# Altium footprint library MxPcbLib.PcbLib: 9 footprints
Each footprint in its own frame and in the unit in brackets; x right, y up, seen from the top. Pads: shape width x height; smd on the part's side, far side on the other; paste and mask are expansions set on the pad; w line width, h text height; cw(c..) or ccw(c..) is an arc to the next point about the centre after c.
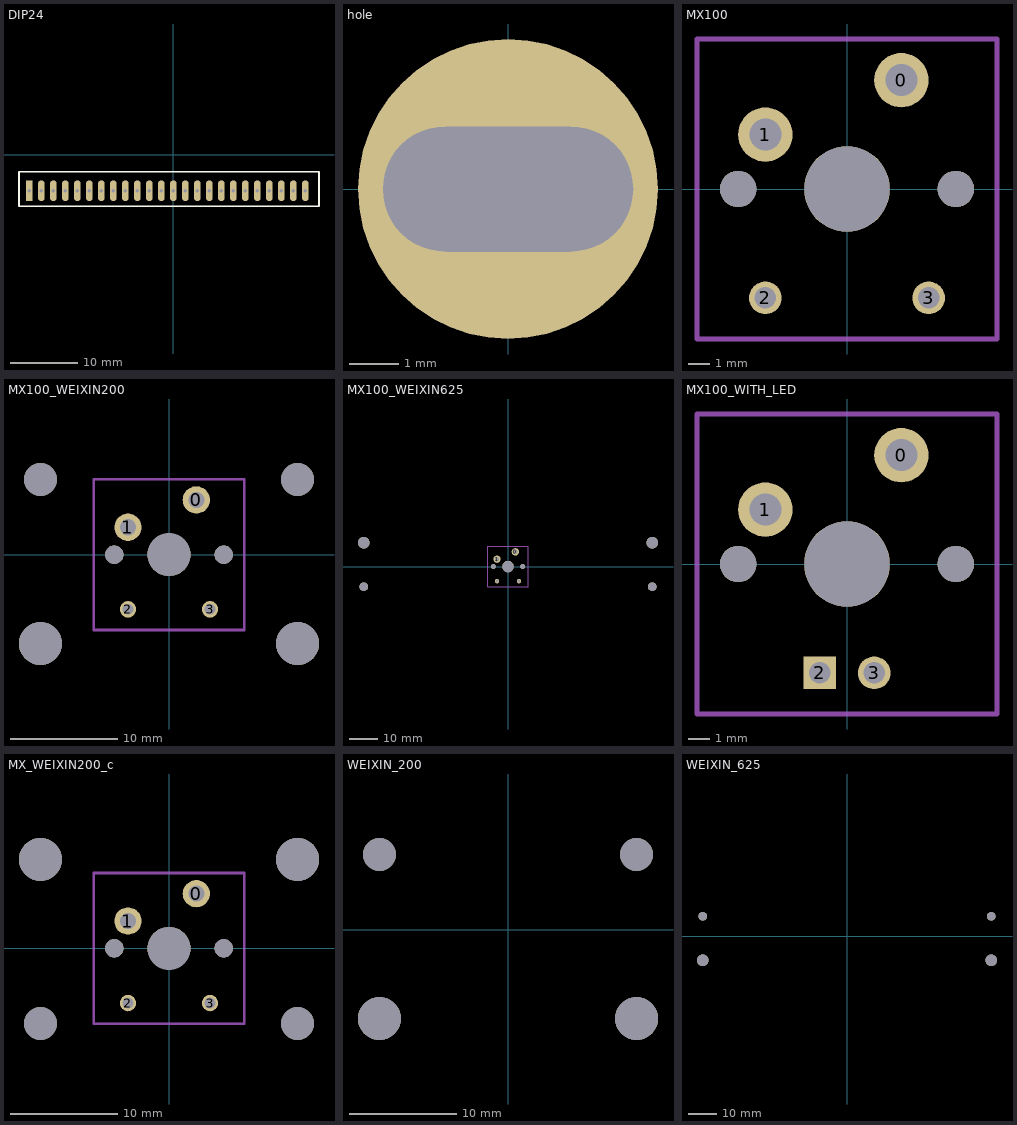
[diagram p0: the footprints below, top view; thin cyan lines are the x and y axes]

## DIP24 [mil]
pads (24):
  rect 40x120 / inner rect 25x25 / far side rect 25x25 hole 20: 1(-840,-210)
  oval 40x120 / inner round 25 / far side round 25 hole 20: 2(-770,-210) 3(-700,-210) 4(-630,-210) 5(-560,-210) 6(-490,-210) 7(-420,-210) 8(-350,-210) 9(-280,-210) 10(-210,-210) 11(-140,-210) 12(-70,-210) 13(0,-210) 14(70,-210) 15(140,-210) 16(210,-210) 17(280,-210) 18(350,-210) 19(420,-210) 20(490,-210) 21(560,-210) 22(630,-210) 23(700,-210) 24(770,-210)
Top Overlay:
  lines w10: -900,-300 850,-300 850,-100 -900,-100 -900,-300

## hole [mil]
pads (1):
  round 240 hole 100 slot 200 at 0 deg: ""(0,0)

## MX100 [mil]
pads (7):
  round 100 hole 59: 0(100,200) 1(-150,100)
  round 60 hole 39: 2(-150,-200) 3(150,-200)
  round 67 hole 67 unplated: ""(-200,0) ""(200,0)
  round 157 hole 157 unplated: ""(0,0)
Mechanical 1:
  lines w10: -275.59,-275.59 275.59,-275.59 275.59,275.59 -275.59,275.59 -275.59,-275.59

## MX100_WEIXIN200 [mil]
pads (11):
  round 100 hole 59: 0(100,200) 1(-150,100)
  round 60 hole 39: 2(-150,-200) 3(150,-200)
  round 157 hole 157 unplated: ""(-470,-325) ""(0,0) ""(470,-325)
  round 120 hole 120 unplated: ""(-470,275) ""(470,275)
  round 67 hole 67 unplated: ""(-200,0) ""(200,0)
Mechanical 1:
  lines w10: -275.59,-275.59 275.59,-275.59 275.59,275.59 -275.59,275.59 -275.59,-275.59

## MX100_WEIXIN625 [mil]
pads (11):
  round 100 hole 59: 0(100,200) 1(-150,100)
  round 60 hole 39: 2(-150,-200) 3(150,-200)
  round 120 hole 120 unplated: ""(-1970,-275) ""(1970,-275)
  round 157 hole 157 unplated: ""(-1970,325) ""(0,0) ""(1970,325)
  round 67 hole 67 unplated: ""(-200,0) ""(200,0)
Mechanical 1:
  lines w10: -275.59,-275.59 275.59,-275.59 275.59,275.59 -275.59,275.59 -275.59,-275.59

## MX100_WITH_LED [mil]
pads (7):
  round 100 hole 59: 0(100,200) 1(-150,100)
  rect 60x60 hole 39: 2(-50,-200)
  round 60 hole 39: 3(50,-200)
  round 67 hole 67 unplated: ""(-200,0) ""(200,0)
  round 157 hole 157 unplated: ""(0,0)
Mechanical 1:
  lines w10: -275.59,-275.59 -275.59,275.59 275.59,275.59 275.59,-275.59 -275.59,-275.59

## MX_WEIXIN200_c [mil]
pads (11):
  round 100 hole 59: 0(100,200) 1(-150,100)
  round 60 hole 39: 2(-150,-200) 3(150,-200)
  round 120 hole 120 unplated: ""(-470,-275) ""(470,-275)
  round 157 hole 157 unplated: ""(-470,325) ""(0,0) ""(470,325)
  round 67 hole 67 unplated: ""(-200,0) ""(200,0)
Mechanical 1:
  lines w10: -275.59,-275.59 275.59,-275.59 275.59,275.59 -275.59,275.59 -275.59,-275.59

## WEIXIN_200 [mil]
pads (4):
  round 157 hole 157 unplated: ""(-470,-325) ""(470,-325)
  round 120 hole 120 unplated: ""(-470,275) ""(470,275)

## WEIXIN_625 [mil]
pads (4):
  round 157 hole 157 unplated: ""(-1970,-325) ""(1970,-325)
  round 120 hole 120 unplated: ""(-1970,275) ""(1970,275)